# Altium footprint library OTHER.PcbLib: 13 footprints
Each footprint in its own frame and in the unit in brackets; x right, y up, seen from the top. Pads: shape width x height; smd on the part's side, far side on the other; paste and mask are expansions set on the pad; w line width, h text height; cw(c..) or ccw(c..) is an arc to the next point about the centre after c.
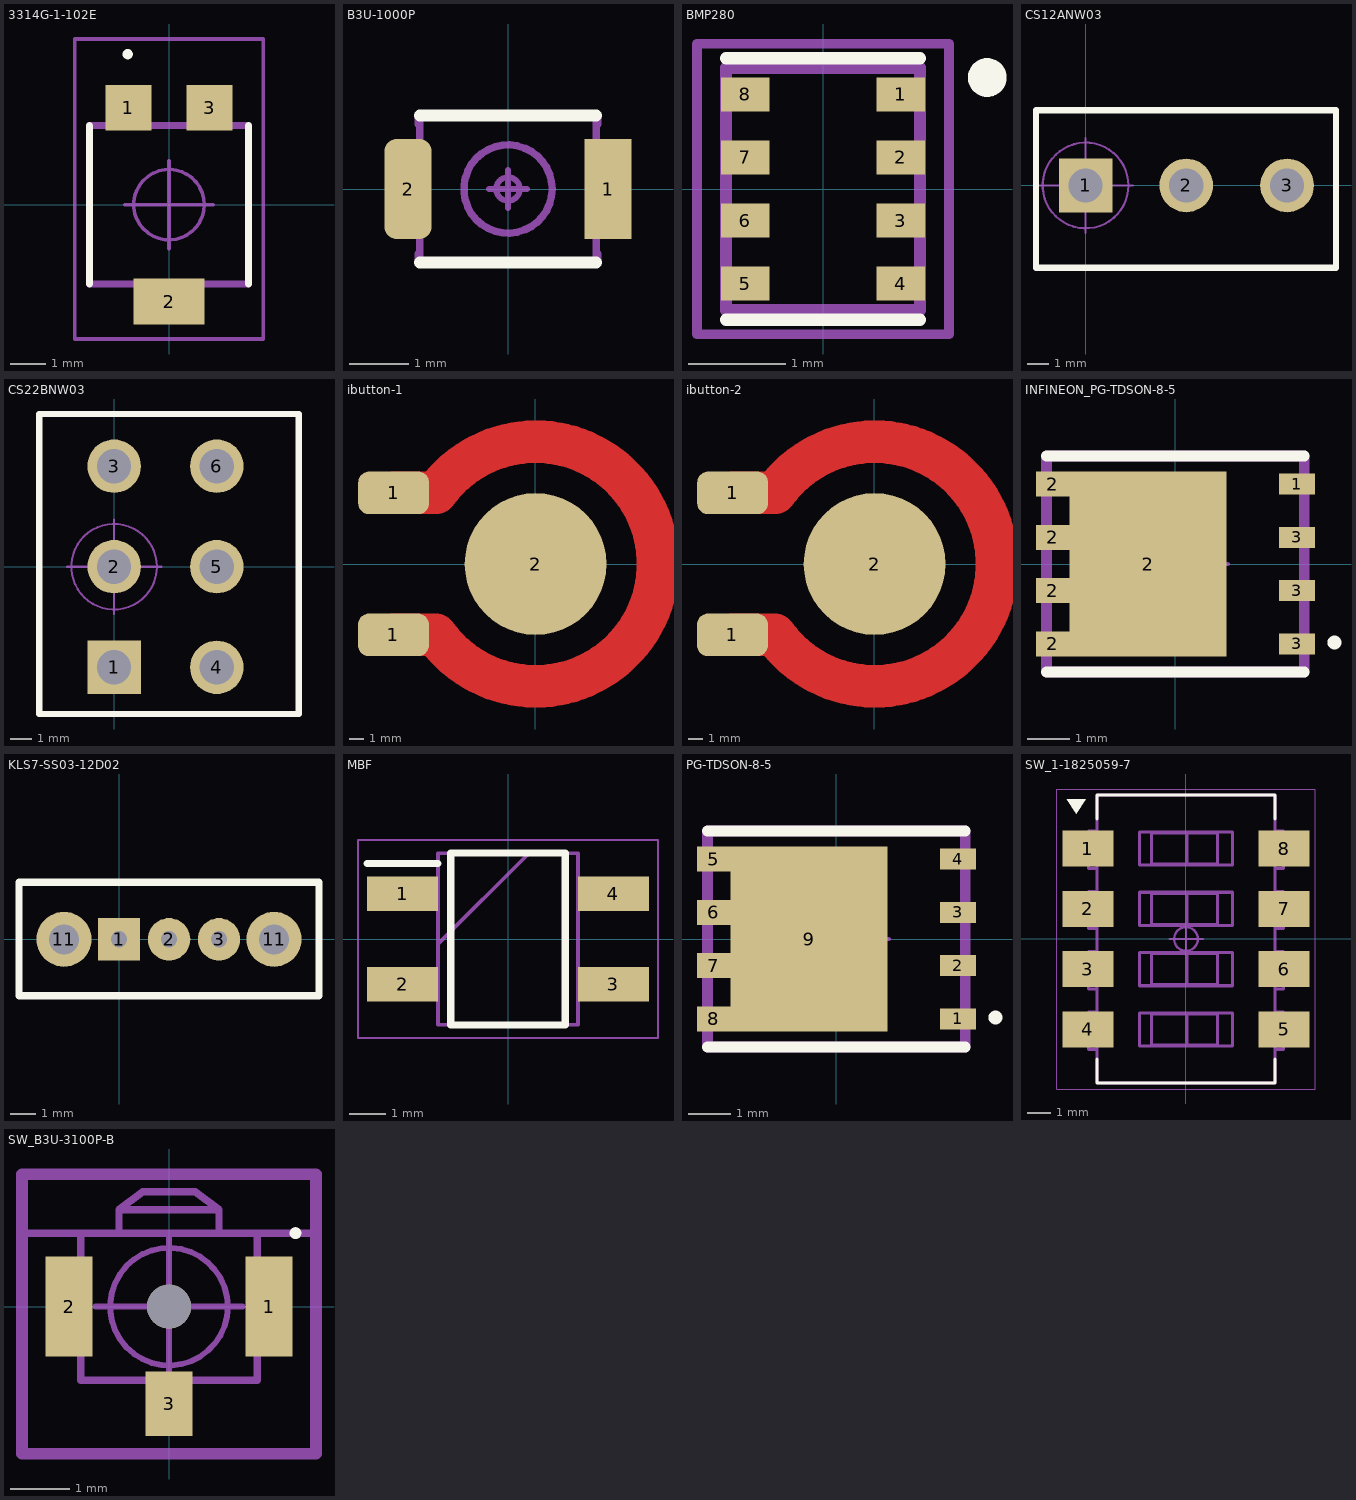
[diagram p0: the footprints below, top view; thin cyan lines are the x and y axes]

## 3314G-1-102E [mm]
pads (3):
  rect 1.3x1.3 smd: 1(-1.15,2.75) 3(1.15,2.75)
  rect 2x1.3 smd: 2(0,-2.75)
Top Overlay:
  circle w0.2: c-1.172,4.268 r0.045
  lines w0.2: -2.25,-2.25 -2.25,2.25 ; 2.25,-2.25 2.25,2.25
Top Assembly:
  lines w0.2: -2.25,-2.25 2.25,-2.25 2.25,2.25 -2.25,2.25 -2.25,-2.25
Top Component Outline:
  circle w0.1: c0,0 r1
  lines w0.1: -1.25,0 1.25,0 ; 0,-1.25 0,1.25 ; -2.667,-3.81 2.667,-3.81 2.667,4.699 -2.667,4.699 -2.667,-3.81
3D body "3314G-1-102E.stp": height 2.73, standoff 0, extent -2.499,-3.099 2.5,3.099

## B3U-1000P [mm]
pads (2):
  rect 0.8x1.7 smd: 1(1.7,0)
  rrect50% 0.8x1.7 smd: 2(-1.7,0)
Top Overlay:
  lines w0.2: -1.5,-1.25 1.5,-1.25 ; -1.5,1.25 1.5,1.25
Top Assembly:
  circle w0.127: c0,0 r0.75
  lines w0.127: -1.5,-1.1 -1.525,-1.1 -1.525,-1.22 -1.5,-1.22 ; -1.5,-0.7 -2,-0.7 -2,0.7 -1.5,0.7 ; -1.5,1.1 -1.525,1.1 -1.525,1.22 -1.225,1.22 ; -0.9,-1.22 -0.9,-1.25 0.9,-1.25 0.9,-1.22 ; -0.9,1.22 -0.9,1.25 0.9,1.25 0.9,1.22 ; 1.225,1.22 1.525,1.22 1.525,1.1 1.5,1.1 ; 1.5,-1.1 1.525,-1.1 1.525,-1.22 1.5,-1.22 ; 1.5,-0.7 2,-0.7 2,0.7 1.5,0.7 ; -1.5,-1.22 -1.5,1.22 1.5,1.22 1.5,-1.22 ; -1.5,-1.22 1.5,-1.22
Top Component Outline:
  circle w0.1: c0,0 r0.2
  lines w0.1: -0.325,0 0.325,0 ; 0,-0.325 0,0.325
3D body "B3U-1000P.stp": height 1.6, standoff 0, extent -2,-1.25 2,1.25

## BMP280 [mm]
pads (8):
  rect 0.5x0.35 smd: 1(0.8,0.975) 2(0.8,0.325) 3(0.8,-0.325) 4(0.8,-0.975) 5(-0.8,-0.975) 6(-0.8,-0.325) 7(-0.8,0.325) 8(-0.8,0.975)
Top Overlay:
  circle w0.2: c1.695,1.15 r0.1
  lines w0.127: -1,-1.35 1,-1.35 ; -1,1.35 1,1.35
Top Assembly:
  lines w0.127: -1,-1.25 -1,1.25 1,1.25 1,-1.25 -1,-1.25
Top Component Outline:
  lines w0.1: -1.3,-1.5 1.3,-1.5 1.3,1.5 -1.3,1.5 -1.3,-1.5
3D body "step_temp.STEP": height 1, standoff 0, extent -1,-1.25 1,1.25

## CS12ANW03 [mm]
pads (3):
  rect 2.5x2.5 hole 1.6: 1(0,0)
  round 2.5 hole 1.6: 2(4.7,0) 3(9.4,0)
Top Overlay:
  lines w0.3: -2.311,-3.835 -2.311,3.505 11.684,3.505 11.684,-3.835 -2.311,-3.835
Top Component Outline:
  circle w0.1: c0,0 r2
  lines w0.1: -2.21,0 2.21,0 ; 0,-2.21 0,2.21
3D body "CS12ANW03_Color.STEP": height 13.7, standoff -4.2, extent -2.3,-3.801 11.7,3.501

## CS22BNW03 [mm]
pads (6):
  rect 2.5x2.5 hole 1.6: 1(0,-4.7)
  round 2.5 hole 1.6: 2(0,0) 3(0,4.7) 4(4.8,-4.7) 5(4.8,0) 6(4.8,4.7)
Top Overlay:
  lines w0.3: -3.505,-6.883 -3.505,7.137 8.636,7.137 8.636,-6.883 -3.505,-6.883
Top Component Outline:
  circle w0.1: c0,0 r2
  lines w0.1: -2.21,0 2.21,0 ; 0,-2.21 0,2.21
3D body "CS22BNW03.stp": height 15.11, standoff -4, extent -3.492,-6.871 8.623,7.125

## ibutton-1 [mm]
pads (3):
  rrect50% 5x3 smd: 1(-10,-5) 1(-9.987,5.013)
  round 10 smd: 2(0.025,0)
Top Layer:
  lines w3: -10,-5 -7.006,-5 ; -9.987,5.013 -6.993,5.013 cw(c0.025,0) -6.993,-5.013
3D body: height 3, standoff 0, extent -9.5,-9.5 9.5,0
3D body: height 3, standoff 0, extent -9.5,0 9.5,9.5
3D body: height 3, standoff 0, extent -4.123,-4.123 4.123,4.123

## ibutton-2 [mm]
pads (3):
  rrect50% 5x3 smd: 1(-10,-5) 1(-9.987,5.013)
  round 10 smd: 2(0.025,0)
Top Layer:
  lines w3: -10,-5 -7.006,-5 ; -9.987,5.013 -6.993,5.013 cw(c0.025,0) -6.993,-5.013
3D body "Деталь.stp": height 2, standoff 0, extent -4.812,-9.622 9.625,9.622

## INFINEON_PG-TDSON-8-5 [mm]
pads (9):
  rect 0.85x0.5 smd: 1(2.9,1.905) 3(2.9,-1.905) 3(2.9,-0.635) 3(2.9,0.635)
  rect 0.8x0.6 smd: 2(-2.925,-1.905) 2(-2.925,-0.635) 2(-2.925,0.635) 2(-2.925,1.905)
  rect 3.75x4.41 smd: 2(-0.65,0)
Top Overlay:
  circle w0.254: c3.794,-1.872 r0.037
  lines w0.254: -3.075,-2.575 3.075,-2.575 ; -3.075,2.575 3.075,2.575
Top Assembly:
  lines w0.254: -3.075,-2.575 -3.075,2.575 3.075,2.575 3.075,-2.575 -3.075,-2.575
Top Component Outline:
  circle w0.1: c0,0 r1
  lines w0.1: -1.25,0 1.25,0 ; 0,-1.25 0,1.25
3D body "BSC350N20NSFDATMA1.stp": height 0.99, standoff -0.01, extent -3.075,-2.707 3.075,2.695

## KLS7-SS03-12D02 [mm] "KLS7-SS03"
pads (5):
  rect 1.7x1.7 hole 0.65: 1(0,0)
  round 1.7 hole 0.65: 2(2,0) 3(4,0)
  round 2.2 hole 1.2: 11(-2.2,0) 11(6.2,0)
Top Overlay:
  lines w0.3: -4,-2.261 8,-2.261 8,2.286 -4,2.286 -4,-2.261
3D body "User Library-KLS7-SS03-12D02-EG-3.STEP": height 7.33, standoff -2.8, extent -2.35,-2.25 6.35,2.25

## MBF [mm]
pads (4):
  rect 1.95x0.95 smd: 1(-2.9,1.25) 2(-2.9,-1.25) 3(2.9,-1.25) 4(2.9,1.25)
Top Overlay:
  lines w0.2: -3.875,2.075 -1.925,2.075 ; -1.575,-2.362 -1.575,2.362 1.575,2.362 1.575,-2.362 -1.575,-2.362
Top Assembly:
  lines w0.1: -1.925,-0.138 0.575,2.362 ; -1.925,-2.362 -1.925,2.362 1.925,2.362 1.925,-2.362 -1.925,-2.362
Top Component Outline:
  lines w0.05: -4.125,-2.725 4.125,-2.725 4.125,2.725 -4.125,2.725 -4.125,-2.725
3D body "MB10FTR.stp": height 1.6, standoff 0, extent -3.35,-2.362 3.35,2.362

## PG-TDSON-8-5 [mm]
pads (9):
  rect 0.85x0.5 smd: 1(2.9,-1.905) 2(2.9,-0.635) 3(2.9,0.635) 4(2.9,1.905)
  rect 0.8x0.6 smd: 5(-2.925,1.905) 6(-2.925,0.635) 7(-2.925,-0.635) 8(-2.925,-1.905)
  rect 3.75x4.41 smd: 9(-0.65,0)
Top Overlay:
  circle w0.254: c3.794,-1.872 r0.037
  lines w0.254: -3.075,-2.575 3.075,-2.575 ; -3.075,2.575 3.075,2.575
Top Assembly:
  lines w0.254: -3.075,-2.575 -3.075,2.575 3.075,2.575 3.075,-2.575 -3.075,-2.575
Top Component Outline:
  circle w0.1: c0,0 r1
  lines w0.1: -1.25,0 1.25,0 ; 0,-1.25 0,1.25
3D body "BSC350N20NSFDATMA1.stp": height 0.99, standoff -0.01, extent -3.075,-2.707 3.075,2.695

## SW_1-1825059-7 [mm]
pads (8):
  rect 2.16x1.52 smd: 1(-4.13,3.81) 2(-4.13,1.27) 3(-4.13,-1.27) 4(-4.13,-3.81) 5(4.13,-3.81) 6(4.13,-1.27) 7(4.13,1.27) 8(4.13,3.81)
Top Overlay:
  region: -4.23,5.881 -5.03,5.881 -4.63,5.281
  lines w0.127: -3.75,-5.064 -3.75,-6.07 3.75,-6.07 3.75,-5.064 ; -3.75,5.064 -3.75,6.07 3.75,6.07 3.75,5.064
Top Assembly:
  drawing of 152 lines, arcs and shapes, not listed
Top Component Outline:
  lines w0.05: -5.455,-6.32 -5.455,6.32 5.455,6.32 5.455,-6.32 -5.455,-6.32
Top Component Center:
  circle w0.1: c0,0 r0.5
  lines w0.1: -0.686,0 0.711,0 ; -0.001,-0.706 -0.001,0.691
3D body "1-1825059-7.stp": height 4.45, standoff 0.01, extent -4.659,-6.07 4.659,6.07

## SW_B3U-3100P-B [mm]
pads (4):
  rect 0.8x1.7 smd: 1(1.7,0) 2(-1.7,0)
  rect 0.8x1.1 smd: 3(0,-1.65)
  round 0.75 hole 0.75 unplated: ""(0,0)
Top Overlay:
  circle w0.1: c2.15,1.25 r0.05
Top Assembly:
  lines w0.127: -2.477,1.25 -1.499,1.25 ; -1.5,-1.15 -1.5,-1.25 ; -1.5,1.15 -1.5,1.25 ; -0.7,-1.25 -1.5,-1.25 ; 0.655,1.25 -1.5,1.25 ; 0.7,-1.25 1.5,-1.25 ; 1.5,-1.15 1.5,-1.25 ; 1.51,1.25 2.489,1.25 ; -1.5,-1.25 -1.5,1.25 ; -1.5,-1.25 1.5,-1.25 ; -1.5,1.25 -0.85,1.25 ; -0.85,1.25 -0.85,1.65 ; -0.85,1.25 0.85,1.25 ; -0.85,1.65 0.85,1.65 ; -0.85,1.65 -0.45,1.95 0.45,1.95 0.85,1.65 ; 0.85,1.25 1.5,1.25 1.5,-1.25 ; 0.85,1.25 0.85,1.65
Top Component Outline:
  circle w0.1: c0,0 r1
  lines w0.1: -1.25,0 1.25,0 ; 0,-1.25 0,1.25
  lines w0.2: -2.5,-2.5 -2.5,2.25 2.5,2.25 2.5,-2.5 0.75,-2.5 -0.75,-2.5 -2.5,-2.5
3D body "step_temp.STEP": height 1.2, standoff -0.5, extent -2,-1.9 2,1.95